# Altium footprint library CON01X03_100MIL.PcbLib: 1 footprints
Each footprint in its own frame and in the unit in brackets; x right, y up, seen from the top. Pads: shape width x height; smd on the part's side, far side on the other; paste and mask are expansions set on the pad; w line width, h text height; cw(c..) or ccw(c..) is an arc to the next point about the centre after c.
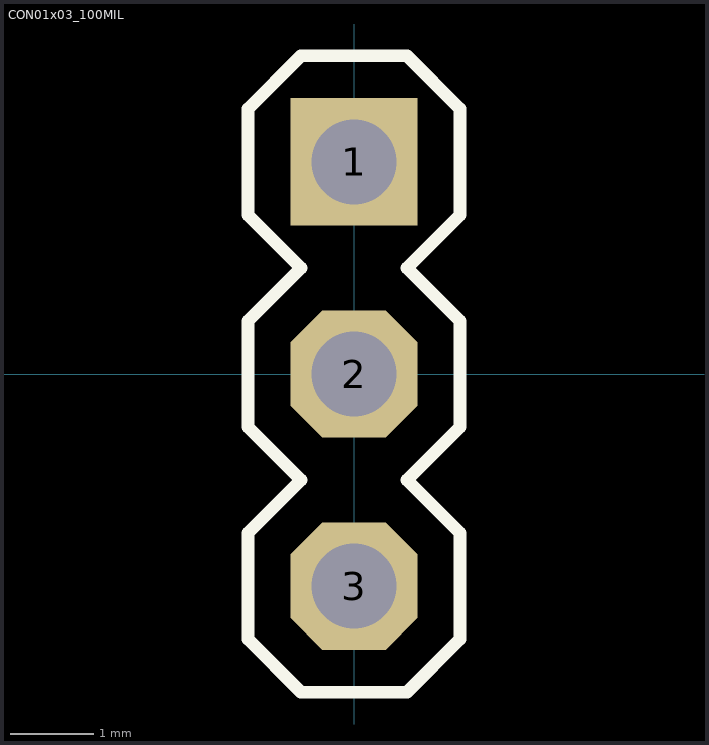
[diagram p0: the footprint, top view; thin cyan lines are the x and y axes]

## CON01x03_100MIL [mil]
pads (3):
  rect 60x60 hole 40: 1(0,100)
  oct 60x60 hole 40: 2(0,0) 3(0,-100)
Top Overlay:
  lines w6: -50,-125 -50,-75 -25,-50 -50,-25 -50,25 -25,50 -50,75 -50,125 -25,150 25,150 50,125 50,75 25,50 50,25 50,-25 25,-50 50,-75 50,-125 25,-150 -25,-150 -50,-125